# Altium footprint library Cooper_LD1.PcbLib: 1 footprints
Each footprint in its own frame and in the unit in brackets; x right, y up, seen from the top. Pads: shape width x height; smd on the part's side, far side on the other; paste and mask are expansions set on the pad; w line width, h text height; cw(c..) or ccw(c..) is an arc to the next point about the centre after c.
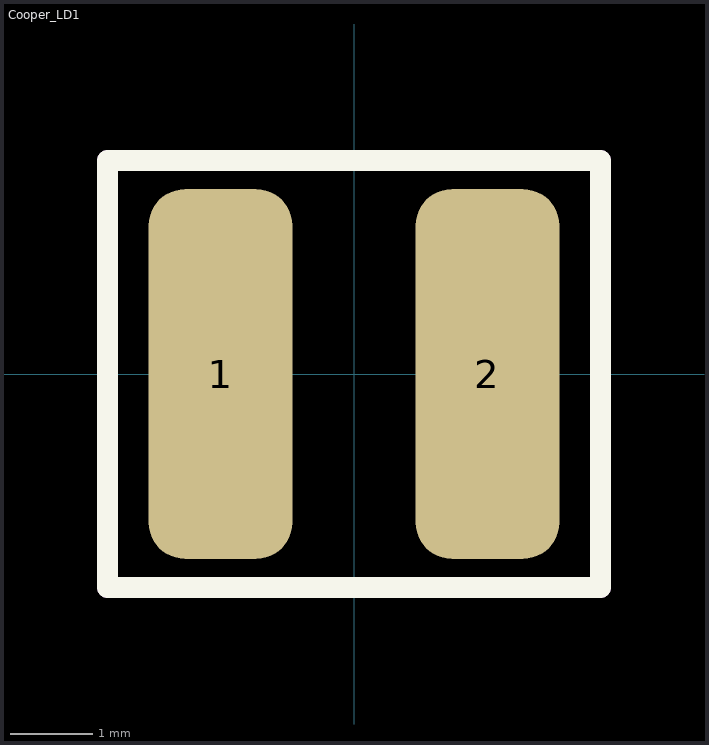
[diagram p0: the footprint, top view; thin cyan lines are the x and y axes]

## Cooper_LD1 [mm] "Cooper LD1 series"
height 3.5
pads (2):
  rrect50% 1.75x4.5 smd: 1(-1.625,0) 2(1.625,0)
Top Overlay:
  lines w0.254: -3,-2.6 -3,2.6 3,2.6 3,-2.6 -3,-2.6
Mechanical 15:
  lines w0.254: -3,-2.6 3,-2.6 3,2.6 -3,2.6 -3,-2.6
3D body: height 3.5, standoff 0, extent -2.25,-2 2.25,2